# Altium footprint library BatteryHolder18650.PcbLib: 1 footprints
Each footprint in its own frame and in the unit in brackets; x right, y up, seen from the top. Pads: shape width x height; smd on the part's side, far side on the other; paste and mask are expansions set on the pad; w line width, h text height; cw(c..) or ccw(c..) is an arc to the next point about the centre after c.
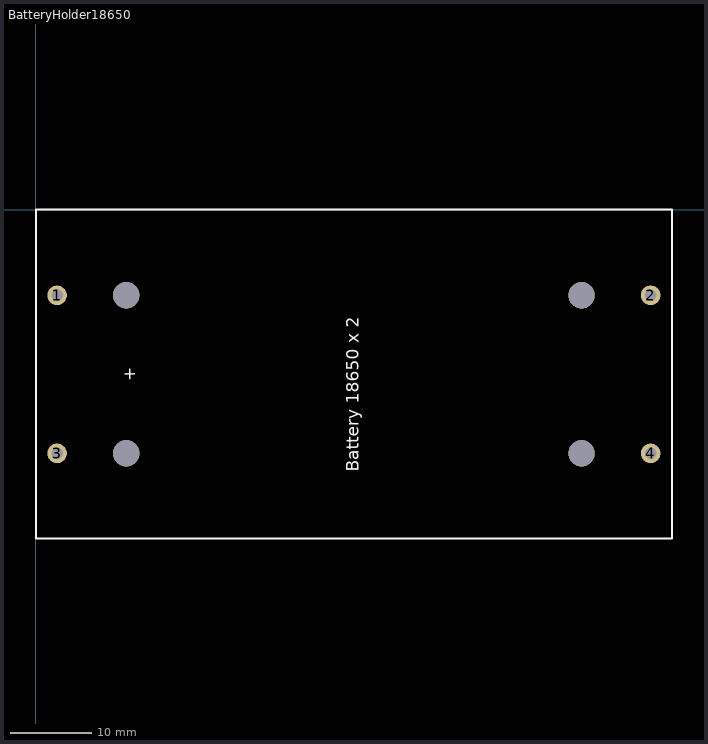
[diagram p0: the footprint, top view; thin cyan lines are the x and y axes]

## BatteryHolder18650 [mm]
pads (8):
  round 2.4 hole 1.38: 1(2.6,-10.455) 2(75.1,-10.45) 3(2.6,-29.755) 4(75.1,-29.755)
  round 3.2 hole 3.2 unplated mask+1: ""(11.04,-29.755) ""(11.04,-10.455) ""(66.66,-29.755) ""(66.66,-10.455)
Top Overlay:
  lines w0.254: 0,-40.132 0,0 77.724,0 77.724,-40.132 0,-40.132
  text "+" at 12.116,-20.98 h1.52
  text "Battery 18650 x 2" at 39.421,-32.004 h1.52